# EAGLE library part OPA1604AID (library Deegou_IC)
SoundPlus Bipolar Audio Quad Op Amp SOIC Texas Instruments OPA1604AID, Quad Audio Op Amp, 35MHz Rail-Rail, 14-Pin SOIC Source: Datasheet <http://www.ti.com/lit/ds/symlink/opa1604.pdf>
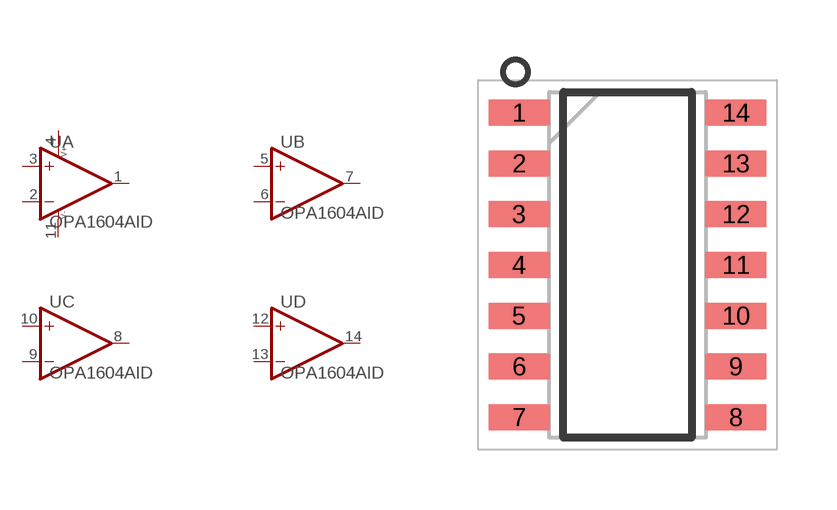
[diagram p115: symbol with the pads of SOIC127P600X175-14N; footprint SOIC127P600X175-14N]

Designator prefix U; gates A=OP-AMP1+- B=OP-AMP1 C=OP-AMP1 D=OP-AMP1

## OPA1604AID (DESCRIPTION: SoundPlus Bipolar Audio Quad Op Amp SOIC Texas Instruments OPA1604AID, Quad Audio Op Amp, 35MHz Rail-Rail, 14-Pin SOIC; HEIGHT: 1.75mm; MANUFACTURER_NAME: Texas Instruments; MANUFACTURER_PART_NUMBER: OPA1604AID; MOUSER_PART_NUMBER: 595-OPA1604AID; MOUSER_PRICE-STOCK: https://www.mouser.com/Search/Refine.aspx?Keyword=595-OPA1604AID; RS_PART_NUMBER: 1628655; RS_PRICE-STOCK: http://uk.rs-online.com/web/p/products/1628655)  [SOIC127P600X175-14N]
1  A:OUT  out
2  A:IN-  in
3  A:IN+  in
4  A:V+  pwr
5  B:IN+  in
6  B:IN-  in
7  B:OUT  out
8  C:OUT  out
9  C:IN-  in
10  C:IN+  in
11  A:V-  pwr
12  D:IN+  in
13  D:IN-  in
14  D:OUT  out

## Footprint SOIC127P600X175-14N (pad centres in mm)
D(R-PDSO-G14)
smd 1.525 x 0.65: 1 -2.712,3.81; 2 -2.712,2.54; 3 -2.712,1.27; 4 -2.712,0; 5 -2.712,-1.27; 6 -2.712,-2.54; 7 -2.712,-3.81; 8 2.712,-3.81; 9 2.712,-2.54; 10 2.712,-1.27; 11 2.712,0; 12 2.712,1.27; 13 2.712,2.54; 14 2.712,3.81